# Altium schematic symbol library downloader.SchLib: 21 symbols
Pins are listed as number, name and electrical type; pins without a type are passive.

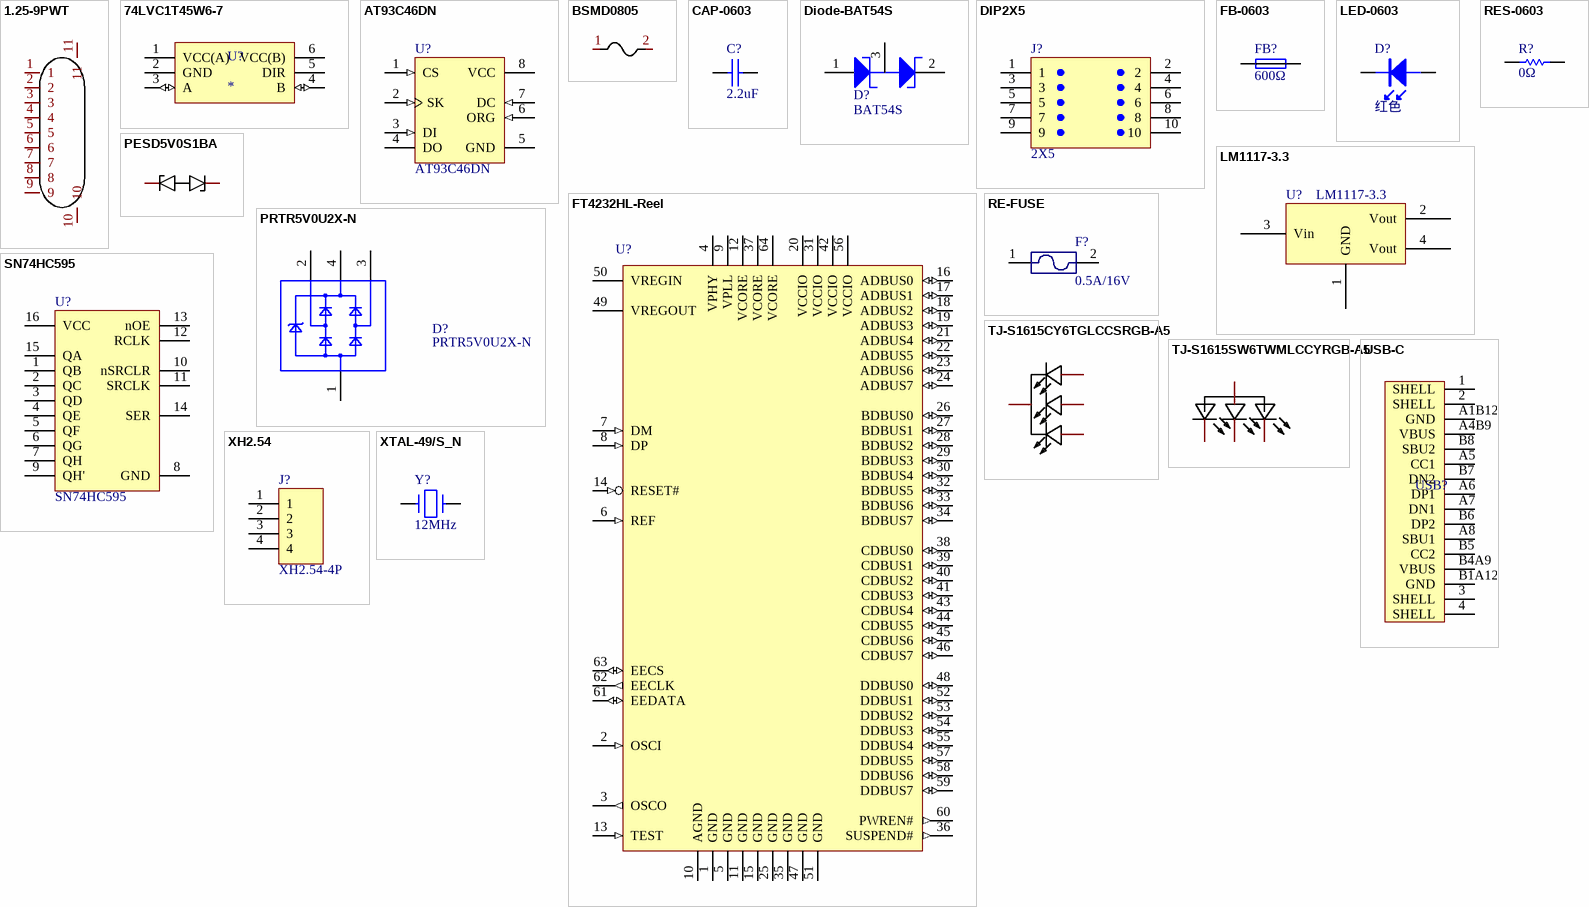
[diagram p0: symbols 1.25-9PWT to XTAL-49/S_N]

## 1.25-9PWT
designator CN?  (value not drawn)
Manufacturer: FG(富港); Add into BOM: yes; Name: 1.25-9PWT; Symbol: 1.25-9PWT; Device: 1.25-9PWT; LCSC Part Name: 9P 1.25mm; Supplier Part: C2763637; Manufacturer Part: 1.25-9PWT; Supplier Footprint: SMD; JLCPCB Part Class: Extended Part; Datasheet: https://atta.szlcsc.com/upload/public/pdf/source/20210407/C2763630_1F55A4CF96FF27F08DE8CC60DA29871C.pdf; Supplier: LCSC; Convert to PCB: yes
footprint CONN-SMD_1.25-9PWT
3D model CONN-SMD_1.25-9PWT
footprint CONN-SMD_1.25-9PWT
pins: 1, 2, 3, 4, 5, 6, 7, 8, 9, 10, 11

## 74LVC1T45W6-7
designator U?
footprint SOT-23-6 (L2.9-W1.6-P0.95-LS2.8-BR)
pins: 1 VCC(A) (power), 2 GND (power), 3 A (io), 4 B (io), 5 DIR (power), 6 VCC(B) (power)

## AT93C46DN
designator U?
序号: 92; 存货名称: IC; 最新成本: NC; 存货编码: AT93C46DN; value: AT93C46DN; 规格型号: AT93C46DN; 产地品牌: NC
footprint SO-8
pins: 1 CS (in), 2 SK (in), 3 DI (in), 4 DO (hiz), 5 GND (power), 6 ORG (in), 7 DC (in), 8 VCC (power)

## BSMD0805
designator F?, comment BSMD0805-050-6V  (value not drawn)
050-6V; Manufacturer: BHFUSE(佰宏); Add into BOM: yes; Operating Voltage (Max): 6V; Current Rating (Max): 40A; Hold Current: 500mA; Trip Current: 1A; Power Dissipation: 500mW; Resistance - Initial (Ri) (Min): 100mΩ; Resistance - Post Trip (R1) (Max): 850mΩ; Maximum Time to Trip: 100ms; Name: BSMD0805-050-6V; Symbol: BSMD0805-050-6V; Device: BSMD0805-050-6V; LCSC Part Name: 6V 500mA 0805自恢复; Supplier Part: C883108; Manufacturer Part: BSMD0805-050-6V; Supplier Footprint: 0805; JLCPCB Part Class: Extended Part; Datasheet: https://atta.szlcsc.com/upload/public/pdf/source/20230512/7A46D6CD923C15CBB98FD769C08EDD80.pdf; Supplier: LCSC; Convert to PCB: yes; Operating Temperature: -40℃~+85℃
footprint F0805
3D model F0805_L2.1-W1.4-H0.8
footprint F-0805
pins: 1, 2

## CAP-0603
designator C?, comment 2.2uF
存货编码: Cap-0603-2.2uF; 序号: 690; 存货名称: 贴片电容; 规格型号: 2.2uF ±10%; 最新成本: NC; 产地品牌: NC; value: 2.2uF
footprint Cap0603
footprint CAP0603
footprint CAP-0603
pins: 1, 2

## Diode-BAT54S
designator D?, comment BAT54S
存货编码: Diode-BAT54S; 序号: 1080; 存货名称: 双肖特基二极管; 最新成本: NC; 规格型号: BAT54S; 产地品牌: NC; value: BAT54S
footprint SOT-23
footprint SOT-23-3
pins: 1, 2, 3

## DIP2X5
designator J?, comment 2X5
2.54mm-W; 存货编码: DIP2X5-2.54mm-W; 序号: 2; 存货名称: 简易牛角座-弯; 规格型号: 简易牛角座 2X5; 最新成本: NC; 产地品牌: NC; value: 2X5
footprint DIP2X5-2.54mm-W
footprint DIP2X5 (2.54mm-W)
pins: 1, 2, 3, 4, 5, 6, 7, 8, 9, 10

## FB-0603
designator FB?, comment 600Ω
存货编码: FB-0603-600Ω; 序号: 863; 存货名称: 贴片磁珠; 规格型号: 600Ω ±25% 400mA; 最新成本: NC; 产地品牌: NC; value: 600Ω
footprint FB0603
footprint FB0603
footprint FB-0603
pins: 1, 2

## FT4232HL-Reel
designator U?
Quad High Speed USB To Multipurpose UART/MPSSE IC, LQFP-64, Tape and Reel; Published: 19-Aug-2010; DatasheetVersion: ver 2.08, May-2010; PackageVersion: 2010; PackageReference: LQFP-64; Publisher: Altium Limited; PackageDescription: 64-Pin Thin Quad Flat Pack, 10 x 10 x 1.4 mm Body, 0.5 mm Pitch; ComponentLink1Description: Manufacturer Link; ComponentLink1URL: http://www.ftdichip.com/Products/ICs/FT4232H.htm; ComponentLink2Description: Datasheet; ComponentLink2URL: http://www.ftdichip.com/Support/Documents/DataSheets/ICs/DS_FT4232H.pdf
footprint LQFP-64_N (Thin QFP, 64-Leads, Body 10x10mm, Pitch 0.5mm, IPC Medium Density)
footprint LQFP-64_L (Thin QFP, 64-Leads, Body 10x10mm, Pitch 0.5mm, IPC High Density)
footprint LQFP-64_M (Thin QFP, 64-Leads, Body 10x10mm, Pitch 0.5mm, IPC Low Density)
footprint LQFP-64 (L10.0-W10.0-P0.50-LS12.0-TL)
pins: 1 GND (power), 2 OSCI (in), 3 OSCO (out), 4 VPHY (power), 5 GND (power), 6 REF (in), 7 DM (in), 8 DP (in), 9 VPLL (power), 10 AGND (power), 11 GND (power), 12 VCORE (power), 13 TEST (in), 14 RESET# (in), 15 GND (power), 16 ADBUS0 (io), 17 ADBUS1 (io), 18 ADBUS2 (io), 19 ADBUS3 (io), 20 VCCIO (power), 21 ADBUS4 (io), 22 ADBUS5 (io), 23 ADBUS6 (io), 24 ADBUS7 (io), 25 GND (power), 26 BDBUS0 (io), 27 BDBUS1 (io), 28 BDBUS2 (io), 29 BDBUS3 (io), 30 BDBUS4 (io), 31 VCCIO (power), 32 BDBUS5 (io), 33 BDBUS6 (io), 34 BDBUS7 (io), 35 GND (power), 36 SUSPEND# (out), 37 VCORE (power), 38 CDBUS0 (io), 39 CDBUS1 (io), 40 CDBUS2 (io), 41 CDBUS3 (io), 42 VCCIO (power), 43 CDBUS4 (io), 44 CDBUS5 (io), 45 CDBUS6 (io), 46 CDBUS7 (io), 47 GND (power), 48 DDBUS0 (io), 49 VREGOUT (power), 50 VREGIN (power), 51 GND (power), 52 DDBUS1 (io), 53 DDBUS2 (io), 54 DDBUS3 (io), 55 DDBUS4 (io), 56 VCCIO (power), 57 DDBUS5 (io), 58 DDBUS6 (io), 59 DDBUS7 (io), 60 PWREN# (out), 61 EEDATA (io), 62 EECLK (out), 63 EECS (io), 64 VCORE (power)

## LED-0603
designator D?, comment 红色
存货编码: LED0603-R; 序号: 805; 存货名称: 发光二极管; 规格型号: 0603贴片,红色; 最新成本: NC; 产地品牌: NC; value: 红色
footprint LED0603-R
footprint LED-0603
pins: 1, 2

## LM1117-3.3
designator U?
LDO; 序号: 4; 存货名称: IC; 规格型号: LDO,IN 4.8~12V; 最新成本: NC; 存货编码: LM1117-3.3; value: LM1117-3.3; 产地品牌: NC
footprint SOT-223
pins: 1 GND, 2 Vout, 3 Vin (power), 4 Vout

## PESD5V0S1BA
designator D?, comment PESD5V0S1BA,115  (value not drawn)
115; Manufacturer: Nexperia(安世); Add into BOM: yes; polarity: 双向; Reverse Stand-Off Voltage (Vrwm): 5V; Maximum Clamping Voltage: 14V; Peak Pulse Current (Ipp)@10/1000us: 12A; Peak Pulse Power Dissipation (Ppp)@10/1000us: 130W; Breakdown Voltage: 5.5V; Type: TVS; Name: PESD5V0S1BA,115; Symbol: PESD5V0S1BA,115; Device: PESD5V0S1BA,115; LCSC Part Name: PESD5V0S1BA,115; Supplier Part: C19224; Manufacturer Part: PESD5V0S1BA,115; Supplier Footprint: SOD-323; JLCPCB Part Class: Extended Part; Datasheet: https://atta.szlcsc.com/upload/public/pdf/source/20161024/1477288630856.pdf; Supplier: LCSC; Convert to PCB: yes
footprint SOD-323_L1.7-W1.3-LS2.5-BI
3D model SOD-323_L1.7-W1.3-LS2.5-BI
footprint SOD-323 (L1.7-W1.3-LS2.5-BI)
pins: 1, 2

## PRTR5V0U2X-N
designator D?
USB2.0-ESD; 序号: 1156; 存货名称: USB2.0-ESD器件; 最新成本: NC; 存货编码: PRTR5V0U2X-N; 规格型号: PRTR5V0U2X-N; 产地品牌: NC; value: PRTR5V0U2X-N
footprint SOT-143
pins: 1, 2, 3, 4

## RE-FUSE
designator F?, comment 0.5A/16V
存货编码: 可恢复保险0.5A/16V; 序号: 866; 存货名称: 可恢复保险; 最新成本: NC; 规格型号: 0.5A/16V; 产地品牌: NC; value: 0.5A/16V
footprint F1206
footprint F-1206
pins: 1, 2

## RES-0603
designator R?, comment 0Ω
存货编码: RES-0603-0; 序号: 171; 存货名称: 贴片电阻; 规格型号: 0Ω ±1%; 最新成本: NC; 产地品牌: NC; value: 0Ω
footprint Res0603
footprint RES-0603
pins: 1, 2

## SN74HC595
designator U?
序号: 93; 存货名称: IC; 最新成本: NC; 存货编码: SN74HC595; value: SN74HC595; 规格型号: SN74HC595; 产地品牌: NC
footprint SO-16
pins: 1 QB, 2 QC, 3 QD, 4 QE, 5 QF, 6 QG, 7 QH, 8 GND, 9 QH', 10 nSRCLR, 11 SRCLK, 12 RCLK, 13 nOE, 14 SER, 15 QA, 16 VCC

## TJ-S1615CY6TGLCCSRGB-A5
designator LED?  (value not drawn)
Manufacturer: TOGIALED(统佳); Add into BOM: yes; Name: TJ-S1615CY6TGLCCSRGB-A5; Symbol: TJ-S1615CY6TGLCCSRGB-A5; Device: TJ-S1615CY6TGLCCSRGB-A5; LCSC Part Name: RGB三色; Supplier Part: C601684; Manufacturer Part: TJ-S1615CY6TGLCCSRGB-A5; Supplier Footprint: 0606; JLCPCB Part Class: Extended Part; Datasheet: https://atta.szlcsc.com/upload/public/pdf/source/20200618/C601684_45CF7DB80FE0981E5EA474618D8F7AF5.pdf; Supplier: LCSC; Convert to PCB: yes
footprint LED-ARRAY-SMD_4P-L1.6-W1.5-BL-FD
3D model LED-ARRAY-SMD_4P-L1.6-W1.5-H0.6-BL-FD
footprint LED-SMD_4P (L1.6-W1.5_TJ-S1615SW6TWMLCCYRGB-A5)
pins: 1 C, 2 B, 3 G, 4 R

## TJ-S1615SW6TWMLCCYRGB-A5
designator LED?  (value not drawn)
Manufacturer: TOGIALED(统佳); Add into BOM: yes; Name: TJ-S1615SW6TWMLCCYRGB-A5; Symbol: TJ-S1615SW6TWMLCCYRGB-A5; Device: TJ-S1615SW6TWMLCCYRGB-A5; LCSC Part Name: RGB三色; Supplier Part: C601682; Manufacturer Part: TJ-S1615SW6TWMLCCYRGB-A5; Supplier Footprint: 0606; JLCPCB Part Class: Extended Part; Datasheet: https://atta.szlcsc.com/upload/public/pdf/source/20200618/C601682_EDAD51DAF5C31E0BB6621F0B1EB58770.pdf; Supplier: LCSC; Convert to PCB: yes
footprint LED-SMD_4P-L1.6-W1.5_TJ-S1615SW6TWMLCCYRGB-A5
3D model LED-SMD_4P-L1.6-W1.5-H0.6_TJ-S1615SW6TWMLCCYRGB-A5
footprint LED-SMD_4P (L1.6-W1.5_TJ-S1615SW6TWMLCCYRGB-A5)
pins: 1, 2, 3, 4

## USB-C
designator USB?
16P
footprint USB-C (SMD_G-SWITCH_GT-USB-7010ASV)
pins: 1 SHELL (power), 2 SHELL (power), 3 SHELL (power), 4 SHELL (power), A1B12 GND (power), A4B9 VBUS (power), A5 CC1 (power), A6 DP1 (power), A7 DN1 (power), A8 SBU1 (power), B1A12 GND (power), B4A9 VBUS (power), B5 CC2 (power), B6 DP2 (power), B7 DN2 (power), B8 SBU2 (power)

## XH2.54
designator J?, comment XH2.54-4P
4P; 存货编码: XH2.54-4P端子（贴片）; 序号: 24; 存货名称: 端子连接器; 最新成本: NC; 规格型号: XH2.54-4P; 产地品牌: NC; value: XH2.54-4P
footprint XH2.54-4P-SMT
footprint XH2.54 (4P-SMT)
pins: 1, 2, 3, 4

## XTAL-49/S_N
designator Y?, comment 12MHz
存货编码: XTAL-49/S_N-12MHz; 序号: 838; 存货名称: 晶体; 最新成本: NC; 规格型号: 12MHz; 产地品牌: NC; value: 12MHz
footprint XTAL-49/S_N
pins: 1, 2